# Altium schematic symbol library MAAD-011045.SchLib: 1 symbol
Pins are listed as number, name and electrical type; pins without a type are passive.

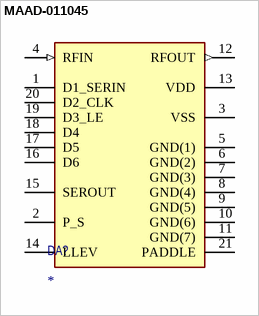
[diagram p0: symbol MAAD-011045]

## MAAD-011045
designator DA?
UltraCMOS RF Digital Attenuator 2-bit, 18 dB, 35–6000 MHz
pins: 1 D1_SERIN, 2 P_S, 3 VSS (power), 4 RFIN (in), 5 GND(1) (power), 6 GND(2) (power), 7 GND(3) (power), 8 GND(4) (power), 9 GND(5) (power), 10 GND(6) (power), 11 GND(7) (power), 12 RFOUT (out), 13 VDD (power), 14 LLEV, 15 SEROUT, 16 D6, 17 D5, 18 D4, 19 D3_LE, 20 D2_CLK, 21 PADDLE